# EAGLE library part IC_74*160 (library psas)
4bit synchronous counter '160-'163
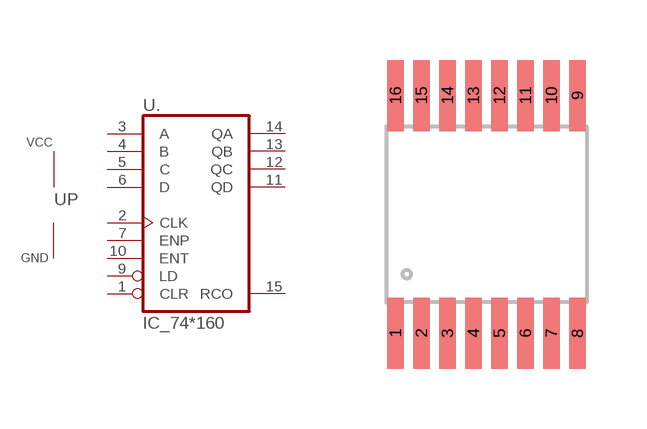
[diagram p24: symbol with the pads of TSSOP-16; footprint TSSOP-16]

Designator prefix U; gates .=74160 P=VCC+GND

## IC_74160-PW  [TSSOP-16]
1  .:CLR  in
2  .:CLK  in
3  .:A  in
4  .:B  in
5  .:C  in
6  .:D  in
7  .:ENP  in
8  P:GND  in
9  .:LD  in
10  .:ENT  in
11  .:QD  out
12  .:QC  out
13  .:QB  out
14  .:QA  out
15  .:RCO  out
16  P:VCC  in

## Footprint TSSOP-16 (pad centres in mm)
0.65mm pitch TSSOP-16
smd 0.42 x 1.78: 1 -2.275,-2.97; 2 -1.625,-2.97; 3 -0.975,-2.97; 4 -0.325,-2.97; 5 0.325,-2.97; 6 0.975,-2.97; 7 1.625,-2.97; 8 2.275,-2.97; 9 2.275,2.97; 10 1.625,2.97; 11 0.975,2.97; 12 0.325,2.97; 13 -0.325,2.97; 14 -0.975,2.97; 15 -1.625,2.97; 16 -2.275,2.97